# Altium integrated library BMA_lib.IntLib: 14 symbols
Pins are listed as number, name and electrical type; pins without a type are passive.

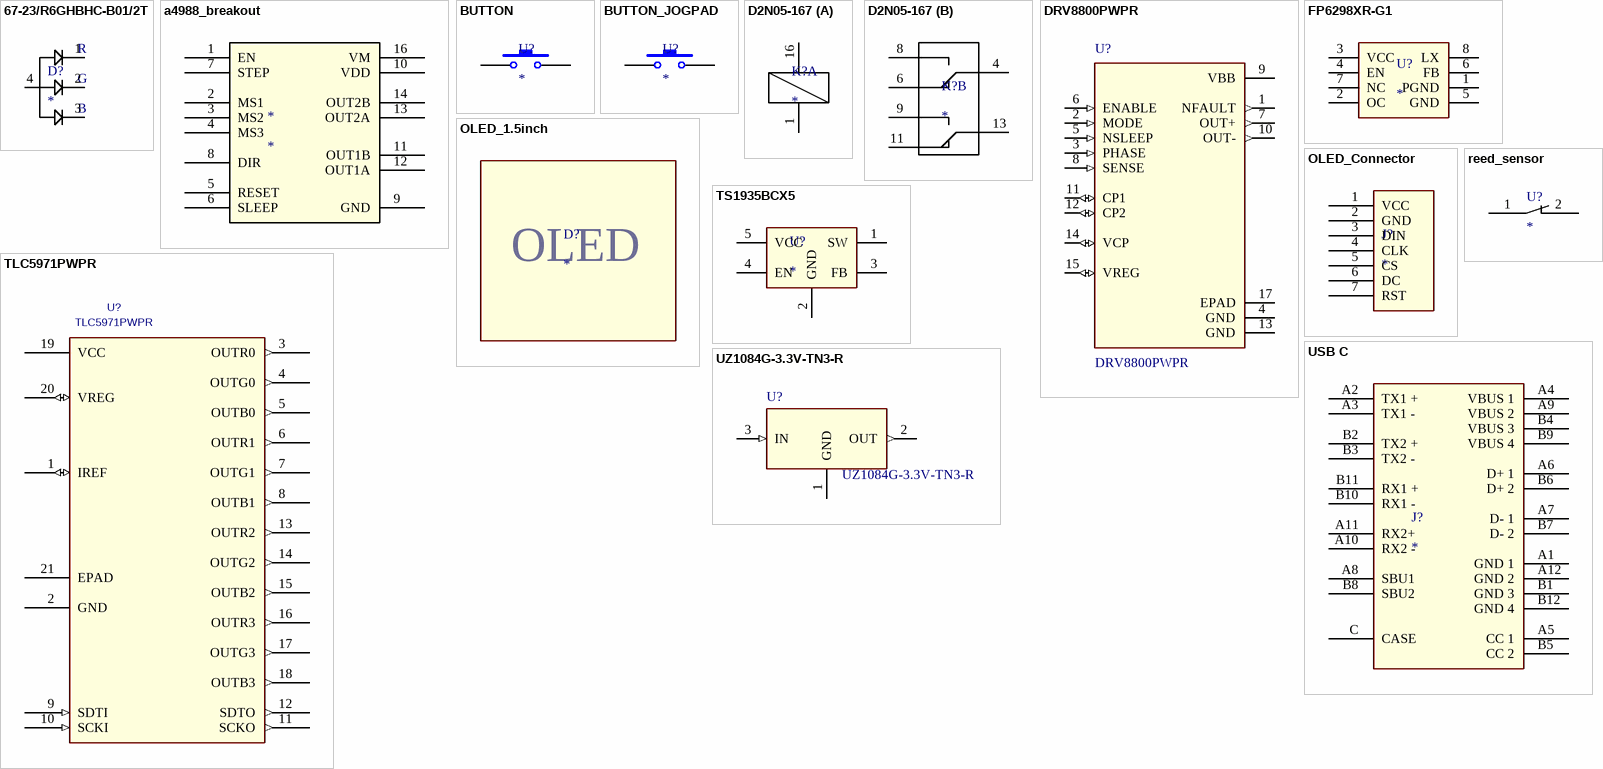
[diagram p0: symbols 67-23/R6GHBHC-B01/2T to UZ1084G-3.3V-TN3-R]

## 67-23/R6GHBHC-B01/2T
designator D?
footprint *PLCC-4
pins: 1 B15, 2 B16, 3 B17, 4 B14
text: R; G; B

## a4988_breakout
designator *
footprint a4988_breakout
pins: 1 EN, 2 MS1, 3 MS2, 4 MS3, 5 RESET, 6 SLEEP, 7 STEP, 8 DIR, 9 GND, 10 VDD, 11 OUT1B, 12 OUT1A, 13 OUT2A, 14 OUT2B, 16 VM

## BUTTON
designator U?
footprint RND 210-00206
pins: 1, 2

## BUTTON_JOGPAD
designator U?
footprint JOGPAD_Button
pins: 1, 2

## D2N05-167
designator K?
D2N05-167
footprint D2N05-167
part A pins: 1 7, 16 6
part B pins: 4, 6, 8, 9, 11, 13

## DRV8800PWPR
designator U?
SnapEDA_Link: https://www.snapeda.com/parts/DRV8800PWPR/Texas%20Instruments/view-part/230050/?ref=snap; Value: *
footprint *SOP65P640X120-17N
pins: 1 NFAULT (out), 2 MODE (in), 3 PHASE (in), 4 GND (power), 5 NSLEEP (in), 6 ENABLE (in), 7 OUT+ (out), 8 SENSE (in), 9 VBB (power), 10 OUT- (out), 11 CP1 (io), 12 CP2 (io), 13 GND (power), 14 VCP (io), 15 VREG (io), 17 EPAD (power)

## FP6298XR-G1
designator U?
DC-DC CONVERTERS STEP-UP ADJUSTABLE 1 2.6V 5.5V 9V 4.5A SOP-8_EP_150MIL ROHS
footprint SOP8
pins: 1 PGND, 2 OC, 3 VCC, 4 EN, 5 GND, 6 FB, 7 NC, 8 LX

## OLED_1.5inch
designator D?
128x128 1.5inch RGB OLED Display Modul SPI
footprint oled_1.5inch
text: OLED

## OLED_Connector
designator J?
footprint OLED_Connector
pins: 1 VCC, 2 GND, 3 DIN, 4 CLK, 5 CS, 6 DC, 7 RST

## reed_sensor
designator U?
footprint MK 65B
pins: 1 29, 2 30

## TLC5971PWPR
designator U?
C: Copyright (C) 2015 Accelerated Designs. All rights reserved; Vendor: Texas Instruments; Built_By: EMA_UL_Team; SourceLibrary: TI_2014-06-19; Value: TLC5971PWPR; Manufacturer_Part_Number: TLC5971PWPR; Manufacturer: Texas Instruments
footprint PWP20_3P43X2P701
pins: 1 IREF (io), 2 GND (power), 3 OUTR0 (out), 4 OUTG0 (out), 5 OUTB0 (out), 6 OUTR1 (out), 7 OUTG1 (out), 8 OUTB1 (out), 9 SDTI (in), 10 SCKI (in), 11 SCKO (out), 12 SDTO (out), 13 OUTR2 (out), 14 OUTG2 (out), 15 OUTB2 (out), 16 OUTR3 (out), 17 OUTG3 (out), 18 OUTB3 (out), 19 VCC (power), 20 VREG (io), 21 EPAD

## TS1935BCX5
designator U?
TS1935BCX5 Boost-Schaltregler Adj 1,9A 2,6-5,5Vi SOT23-5
footprint *SOT95P285X145-5N
pins: 1 SW, 2 GND, 3 FB, 4 EN, 5 VCC

## USB C
designator J?
footprint 80211-1921 (BELLWETHER USB C HOR)
pins: A1 GND 1, A2 TX1 +, A3 TX1 -, A4 VBUS 1, A5 CC 1, A6 D+ 1, A7 D- 1, A8 SBU1, A9 VBUS 2, A10 RX2 -, A11 RX2+, A12 GND 2, B1 GND 3, B2 TX2 +, B3 TX2 -, B4 VBUS 3, B5 CC 2, B6 D+ 2, B7 D- 2, B8 SBU2, B9 VBUS 4, B10 RX1 -, B11 RX1 +, B12 GND 4, C CASE

## UZ1084G-3.3V-TN3-R
designator U?
LINEAR VOLTAGE REGULATORS TO-252-2(DPAK) ROHS; MF: Diodes Inc.; MP: AZ1117D-3.3TRE1; Availability: Unavailable; SnapEDA_Link: https://www.snapeda.com/parts/AZ1117D-3.3TRE1/Diodes%20Inc./view-part/856390/?ref=snap; Package: TO-252-2 Diodes Inc.; Price: None; Value: *
footprint TO-252-2
pins: 1 GND (power), 2 OUT (out), 3 IN (in)